# EAGLE library part MC14504BCPG (library ON_Semiconductor_By_element14_Batch_1)
Hex Level Shifter
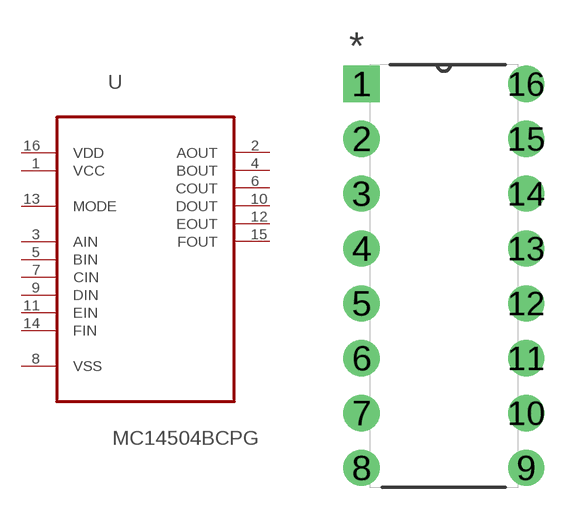
[diagram p274: symbol with the pads of DIP254P762X444-16; footprint DIP254P762X444-16]

Designator prefix U

## MC14504BCPG (MPN: MC14504BCPG; OC_FARNELL: 9665064; OC_NEWARK: 45J1101; PACKAGE: PDIP-16; SUPPLIER: On semiconductors)  [DIP254P762X444-16]
1  VCC  pwr
2  AOUT  out
3  AIN  in
4  BOUT  out
5  BIN  in
6  COUT  out
7  CIN  in
8  VSS  pwr
9  DIN  in
10  DOUT  out
11  EIN  in
12  EOUT  out
13  MODE  in
14  FIN  in
15  FOUT  out
16  VDD  pwr

## Footprint DIP254P762X444-16 (pad centres in mm)
drill 1.118 square: 1 -7.62,17.78
drill 1.118: 2 -7.62,15.24; 3 -7.62,12.7; 4 -7.62,10.16; 5 -7.62,7.62; 6 -7.62,5.08; 7 -7.62,2.54; 8 -7.62,0; 9 0,0; 10 0,2.54; 11 0,5.08; 12 0,7.62; 13 0,10.16; 14 0,12.7; 15 0,15.24; 16 0,17.78